# Altium footprint library Control_Board.PcbLib: 21 footprints (part 1 of 2)
Each footprint in its own frame and in the unit in brackets; x right, y up, seen from the top. Pads: shape width x height; smd on the part's side, far side on the other; paste and mask are expansions set on the pad; w line width, h text height; cw(c..) or ccw(c..) is an arc to the next point about the centre after c.
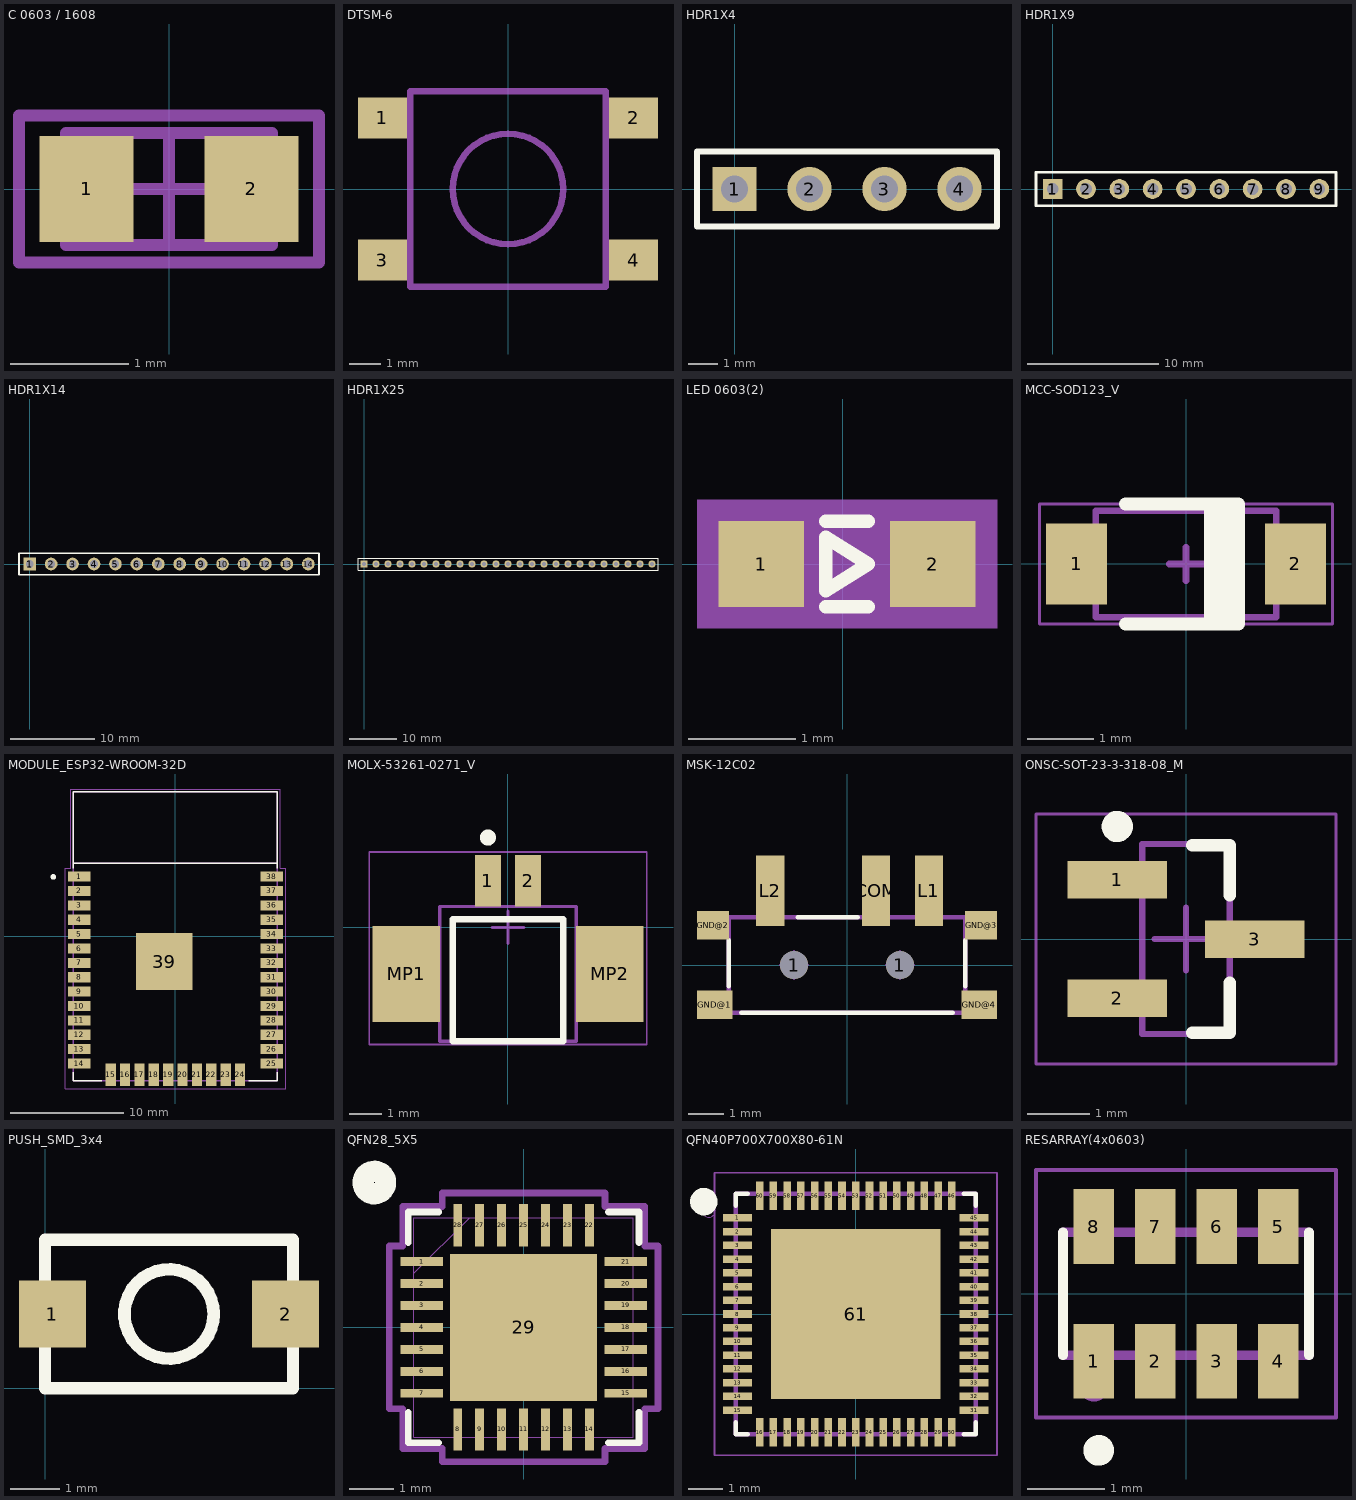
[diagram p0: the footprints below, top view; thin cyan lines are the x and y axes]

## C 0603 / 1608 [mm]
pads (2):
  rect 0.8x0.9 smd: 1(-0.7,0) 2(0.7,0)
Mechanical 13:
  lines w0.1: -0.875,-0.475 0.875,-0.475 0.875,0.475 -0.875,0.475 -0.875,-0.475
Mechanical 15:
  lines w0.1: -0.475,0 0.475,0 ; 0,-0.475 0,0.475 ; -1.275,-0.625 1.275,-0.625 1.275,0.625 -1.275,0.625 -1.275,-0.625
3D body "Capacitor 0603.step": height 0.3, standoff 0, extent -0.8,-0.4 0.8,0.4

## DTSM-6 [mil]
pads (4):
  rect 61.02x51.18 smd: 1(-156.5,88.58) 2(156.5,88.58) 3(-156.5,-88.58) 4(156.5,-88.58)
Mechanical 2:
  circle w8: c0,0 r68.9
  lines w8: -122.05,-39.37 -122.05,39.37 ; -108.27,-122.05 108.27,-122.05 ; -108.27,122.05 108.27,122.05 ; 122.05,-39.37 122.05,39.37
Mechanical 18:
  circle w8: c0,0 r68.9
  lines w8: -122.05,-122.05 -122.05,122.05 122.05,122.05 122.05,-122.05 -122.05,-122.05

## HDR1X4 [mm]
pads (4):
  rect 1.5x1.5 hole 0.9: 1(0,0)
  round 1.5 hole 0.9: 2(2.54,0) 3(5.08,0) 4(7.62,0)
Top Overlay:
  lines w0.2: -1.27,-1.27 -1.27,1.27 8.89,1.27 8.89,-1.27 -1.27,-1.27
3D body: height 8.54, standoff -3, extent -1.27,-1.245 8.89,1.245

## HDR1X9 [mm]
pads (9):
  rect 1.5x1.5 hole 0.9: 1(0,0)
  round 1.5 hole 0.9: 2(2.54,0) 3(5.08,0) 4(7.62,0) 5(10.16,0) 6(12.7,0) 7(15.24,0) 8(17.78,0) 9(20.32,0)
Top Overlay:
  lines w0.2: -1.27,-1.27 21.59,-1.27 21.59,1.27 -1.27,1.27 -1.27,-1.27
3D body: height 8.54, standoff -3, extent -1.27,-1.245 21.59,1.245

## HDR1X14 [mm]
pads (14):
  rect 1.5x1.5 hole 0.9: 1(0,0)
  round 1.5 hole 0.9: 2(2.54,0) 3(5.08,0) 4(7.62,0) 5(10.16,0) 6(12.7,0) 7(15.24,0) 8(17.78,0) 9(20.32,0) 10(22.86,0) 11(25.4,0) 12(27.94,0) 13(30.48,0) 14(33.02,0)
Top Overlay:
  lines w0.2: -1.27,-1.27 34.29,-1.27 34.29,1.27 0.635,1.27 -1.27,1.27 -1.27,-1.27
3D body "User Library-Header_Male_10Pin.STEP": height 8.54, standoff -3, extent -1.25,-1.24 24.15,1.25
3D body: height 8.54, standoff -3, extent 24.13,-1.245 34.29,1.245

## HDR1X25 [mm]
pads (25):
  rect 1.5x1.5 hole 0.9: 1(0,0)
  round 1.5 hole 0.9: 2(2.54,0) 3(5.08,0) 4(7.62,0) 5(10.16,0) 6(12.7,0) 7(15.24,0) 8(17.78,0) 9(20.32,0) 10(22.86,0) 11(25.4,0) 12(27.94,0) 13(30.48,0) 14(33.02,0) 15(35.56,0) 16(38.1,0) 17(40.64,0) 18(43.18,0) 19(45.72,0) 20(48.26,0) 21(50.8,0) 22(53.34,0) 23(55.88,0) 24(58.42,0) 25(60.96,0)
Top Overlay:
  lines w0.2: -1.27,-1.27 -1.27,1.27 0.635,1.27 62.23,1.27 62.23,-1.27 -1.27,-1.27

## LED 0603(2) [mm]
pads (2):
  rect 0.8x0.8 smd: 1(-0.762,0) 2(0.838,0)
Top Overlay:
  lines w0.127: -0.162,-0.4 0.238,-0.4 ; -0.162,0.4 0.238,0.4 ; -0.162,-0.25 -0.162,0.25 0.238,0 -0.162,-0.25
Mechanical 1:
  lines w0.127: -0.762,-0.4 -0.762,0.4 0.838,0.4 0.838,-0.4 -0.762,-0.4
Mechanical 4:
  region: 1.438,-0.6 -1.362,-0.6 -1.362,0.6 1.438,0.6

## MCC-SOD123_V [mil]
pads (2):
  rect 35.98x47.99 smd: 1(-64.5,0) 2(64.5,0)
Top Overlay:
  rectangle: 10.75,-35.44 30.75,35.42
  lines w7.87: -35.67,-35.43 30.75,-35.43 30.75,35.43 -35.67,35.43
Mechanical 13:
  lines w3.94: -53.15,-31.5 -53.15,31.5 53.15,31.5 53.15,-31.5 -53.15,-31.5
Mechanical 15:
  lines w1.97: -86.42,-35.43 -86.42,35.43 86.42,35.43 86.42,-35.43 -86.42,-35.43
  lines w3.94: -9.84,0 9.84,0 ; 0,-9.84 0,9.84
3D body: height 53.15, standoff 0, extent -53.15,-31.5 53.15,31.5

## MODULE_ESP32-WROOM-32D [mm]
pads (39):
  rect 2x0.9 smd: 1(-8.5,5.26) 2(-8.5,3.99) 3(-8.5,2.72) 4(-8.5,1.45) 5(-8.5,0.18) 6(-8.5,-1.09) 7(-8.5,-2.36) 8(-8.5,-3.63) 9(-8.5,-4.9) 10(-8.5,-6.17) 11(-8.5,-7.44) 12(-8.5,-8.71) 13(-8.5,-9.98) 14(-8.5,-11.25) 25(8.5,-11.25) 26(8.5,-9.98) 27(8.5,-8.71) 28(8.5,-7.44) 29(8.5,-6.17) 30(8.5,-4.9) 31(8.5,-3.63) 32(8.5,-2.36) 33(8.5,-1.09) 34(8.5,0.18) 35(8.5,1.45) 36(8.5,2.72) 37(8.5,3.99) 38(8.5,5.26)
  rect 0.9x2 smd: 15(-5.715,-12.25) 16(-4.445,-12.25) 17(-3.175,-12.25) 18(-1.905,-12.25) 19(-0.635,-12.25) 20(0.635,-12.25) 21(1.905,-12.25) 22(3.175,-12.25) 23(4.445,-12.25) 24(5.715,-12.25)
  rect 5x5 smd: 39(-1,-2.24)
Top Overlay:
  circle w0.3: c-10.777,5.238 r0.1
  lines w0.127: -9,-12 -9,-12.75 -6.5,-12.75 ; -9,6 -9,12.75 9,12.75 9,6 ; -8.96,6.45 8.96,6.45 ; 6.5,-12.75 9,-12.75 9,-12
Top Paste:
  region: -2.586,-0.659 0.581,-0.659 0.581,-3.828 -2.586,-3.828
Mechanical 1:
  circle w0.3: c-8.277,5.238 r0.1
  lines w0.127: -8.96,6.45 8.96,6.45 ; -9,-12.75 9,-12.75 9,12.75 -9,12.75 -9,-12.75
  text "ANTENNA" at -5.725,8.401 h1
Mechanical 4:
  lines w0.05: -9.75,-13.5 9.75,-13.5 9.75,6 9.25,6 9.25,13 -9.25,13 -9.25,6 -9.75,6 -9.75,-13.5

## MOLX-53261-0271_V [mm]
pads (4):
  rect 0.8x1.6 smd: 1(-0.625,1.45) 2(0.625,1.45)
  rect 2.1x3 smd: MP1(-3.175,-1.45) MP2(3.175,-1.45)
Top Overlay:
  circle w0.25: c-0.625,2.8 r0.125
  lines w0.2: -1.725,-3.55 1.725,-3.55 1.725,0.25 -1.725,0.25 -1.725,-3.55
Mechanical 13:
  lines w0.1: -2.125,-3.55 2.125,-3.55 2.125,0.65 -2.125,0.65 -2.125,-3.55
Mechanical 15:
  lines w0.05: -4.325,-3.65 4.325,-3.65 4.325,2.35 -4.325,2.35 -4.325,-3.65
  lines w0.1: -0.5,0 0.5,0 ; 0,-0.5 0,0.5
3D body: height 3.41, standoff 0.01, extent -3.825,-3.55 3.825,1.65

## MSK-12C02 [mil]
pads (9):
  round 31.5 hole 31.5: 1(-59.06,0) 1(59.06,0)
  rect 31.5x78.74 smd: COM(32.4,82.68) L1(91.46,82.68) L2(-85.71,82.68)
  rect 39.37x31.5 smd: GND@1(-147.64,-44.29) GND@4(147.64,-44.29)
  rect 35.43x31.5 smd: GND@2(-149.61,44.29) GND@3(149.61,44.29)
Top Overlay:
  lines w5: -131.89,-23.62 -131.89,27.56 ; -118.11,-53.15 1.97,-53.15 53.15,-53.15 118.11,-53.15 ; -55.12,53.15 11.81,53.15 ; 131.89,-23.62 131.89,27.56
Mechanical 8:
  lines w1.97: -133.86,-53.15 -157.48,-53.15 -157.48,-35.43 -133.86,-35.43 ; -131.89,35.43 -157.48,35.43 -157.48,53.15 -131.89,53.15 ; -93.58,53.15 -93.58,92.52 -77.83,92.52 -77.83,53.15 ; -74.8,0 -59.06,0 ; -59.06,-15.75 -59.06,0 ; -59.06,15.75 -59.06,0 ; -43.31,0 -59.06,0 ; 24.53,53.15 24.53,92.52 40.28,92.52 40.28,53.15 ; 43.31,0 59.06,0 ; 59.06,-15.75 59.06,0 ; 59.06,15.75 59.06,0 ; 74.8,0 59.06,0 ; 83.58,53.15 83.58,92.52 99.33,92.52 99.33,53.15 ; 133.86,-53.15 157.48,-53.15 157.48,-35.43 133.86,-35.43 ; 133.86,35.43 157.48,35.43 157.48,53.15 133.86,53.15
  lines w5: -131.89,-53.15 -131.89,35.43 -131.89,53.15 -93.58,53.15 -77.83,53.15 24.53,53.15 40.28,53.15 83.58,53.15 99.33,53.15 131.89,53.15 131.89,-53.15 -5.91,-53.15 -57.09,-53.15 -131.89,-53.15
3D body: height 45.67, standoff -19.68, extent -151.57,-110.23 151.58,86.62

## ONSC-SOT-23-3-318-08_M [mm]
pads (3):
  rect 1.6x0.6 smd: 1(-1.1,0.95) 2(-1.1,-0.95) 3(1.1,0)
Top Overlay:
  circle w0.25: c-1.1,1.8 r0.125
  lines w0.2: 0.1,-1.5 0.7,-1.5 0.7,-0.7 ; 0.1,1.5 0.7,1.5 0.7,0.7
Mechanical 13:
  lines w0.1: -0.7,-1.52 -0.7,1.52 0.7,1.52 0.7,-1.52 -0.7,-1.52
Mechanical 15:
  lines w0.05: -2.4,-2 -2.4,2 2.4,2 2.4,-2 -2.4,-2
  lines w0.1: -0.5,0 0.5,0 ; 0,-0.5 0,0.5
3D body: height 1.11, standoff 0.01, extent -0.7,-1.52 0.7,1.52

## PUSH_SMD_3x4 [mm]
pads (2):
  rect 1.35x1.35 smd: 1(0.15,1.5) 2(4.85,1.5)
Top Overlay:
  circle w0.254: c2.5,1.5 r0.9
  lines w0.25: 0,0 5,0 5,3 0,3 0,0

## QFN28_5X5 [mil]
pads (29):
  rect 38x8 smd paste+0 mask+0: 1(-91.5,59.06) 2(-91.5,39.37) 3(-91.5,19.68) 4(-91.5,0) 5(-91.5,-19.68) 6(-91.5,-39.37) 7(-91.5,-59.06) 15(91.5,-59.06) 16(91.5,-39.37) 17(91.5,-19.68) 18(91.5,0) 19(91.5,19.68) 20(91.5,39.37) 21(91.5,59.06)
  rect 8x38 smd paste+0 mask+0: 8(-59.06,-91.5) 9(-39.37,-91.5) 10(-19.68,-91.5) 11(0,-91.5) 12(19.68,-91.5) 13(39.37,-91.5) 14(59.06,-91.5) 22(59.06,91.5) 23(39.37,91.5) 24(19.68,91.5) 25(0,91.5) 26(-19.68,91.5) 27(-39.37,91.5) 28(-59.06,91.5)
  rect 132x132 smd paste-65.5 mask+0: 29(0,0)
Top Overlay:
  circle w10: c-133.86,129.92 r14.63
  circle w10: c-133.86,129.92 r5.57
  lines w6: -103.5,-76.16 -103.5,-103.5 -76.16,-103.5 ; -103.5,76.16 -103.5,103.5 -76.16,103.5 ; 76.16,-103.5 103.5,-103.5 103.5,-76.16 ; 76.16,103.5 103.5,103.5 103.5,76.16
Top Paste:
  region: 62.06,-3.94 3.94,-3.94 3.94,-62.06 62.06,-62.06
  region: 62.06,62.06 3.94,62.06 3.94,3.94 62.06,3.94
  region: -3.94,-3.94 -62.06,-3.94 -62.06,-62.06 -3.94,-62.06
  region: -3.94,62.06 -62.06,62.06 -62.06,3.94 -3.94,3.94
Mechanical 13:
  lines w1: -98.5,48.5 -48.5,98.5 ; -98.5,-98.5 -98.5,98.5 98.5,98.5 98.5,-98.5 -98.5,-98.5 ; -98.5,-65.06 -98.5,-53.06 -98.5,-65.06 ; -98.5,-45.37 -98.5,-33.37 -98.5,-45.37 ; -98.5,-25.68 -98.5,-13.69 -98.5,-25.68 ; -98.5,-6 -98.5,6 -98.5,-6 ; -98.5,13.69 -98.5,25.68 -98.5,13.69 ; -98.5,33.37 -98.5,45.37 -98.5,33.37 ; -98.5,53.06 -98.5,65.06 -98.5,53.06 ; -65.06,-98.5 -53.06,-98.5 -65.06,-98.5 ; -65.06,98.5 -53.06,98.5 -65.06,98.5 ; -45.37,-98.5 -33.37,-98.5 -45.37,-98.5 ; -45.37,98.5 -33.37,98.5 -45.37,98.5 ; -25.68,-98.5 -13.69,-98.5 -25.68,-98.5 ; -25.68,98.5 -13.69,98.5 -25.68,98.5 ; -6,-98.5 6,-98.5 -6,-98.5 ; -6,98.5 6,98.5 -6,98.5 ; 13.69,-98.5 25.68,-98.5 13.69,-98.5 ; 13.69,98.5 25.68,98.5 13.69,98.5 ; 33.37,-98.5 45.37,-98.5 33.37,-98.5 ; 33.37,98.5 45.37,98.5 33.37,98.5 ; 53.06,-98.5 65.06,-98.5 53.06,-98.5 ; 53.06,98.5 65.06,98.5 53.06,98.5 ; 98.5,-65.06 98.5,-53.06 98.5,-65.06 ; 98.5,-45.37 98.5,-33.37 98.5,-45.37 ; 98.5,-25.68 98.5,-13.69 98.5,-25.68 ; 98.5,-6 98.5,6 98.5,-6 ; 98.5,13.69 98.5,25.68 98.5,13.69 ; 98.5,33.37 98.5,45.37 98.5,33.37 ; 98.5,53.06 98.5,65.06 98.5,53.06
  text "*" at -85,43.9 h39.37
Mechanical 15:
  lines w6: -120.5,-73.06 -120.5,73.06 -108.5,73.06 -108.5,108.5 -73.06,108.5 -73.06,120.5 73.06,120.5 73.06,108.5 108.5,108.5 108.5,73.06 120.5,73.06 120.5,-73.06 108.5,-73.06 108.5,-108.5 73.06,-108.5 73.06,-120.5 -73.06,-120.5 -73.06,-108.5 -108.5,-108.5 -108.5,-73.06 -120.5,-73.06
3D body: height 10, standoff 0, extent 0,0 10,10

## QFN40P700X700X80-61N [mm]
pads (61):
  rect 0.84x0.22 smd: 1(-3.445,2.8) 2(-3.445,2.4) 3(-3.445,2) 4(-3.445,1.6) 5(-3.445,1.2) 6(-3.445,0.8) 7(-3.445,0.4) 8(-3.445,0) 9(-3.445,-0.4) 10(-3.445,-0.8) 11(-3.445,-1.2) 12(-3.445,-1.6) 13(-3.445,-2) 14(-3.445,-2.4) 15(-3.445,-2.8) 31(3.445,-2.8) 32(3.445,-2.4) 33(3.445,-2) 34(3.445,-1.6) 35(3.445,-1.2) 36(3.445,-0.8) 37(3.445,-0.4) 38(3.445,0) 39(3.445,0.4) 40(3.445,0.8) 41(3.445,1.2) 42(3.445,1.6) 43(3.445,2) 44(3.445,2.4) 45(3.445,2.8)
  rect 0.22x0.84 smd: 16(-2.8,-3.445) 17(-2.4,-3.445) 18(-2,-3.445) 19(-1.6,-3.445) 20(-1.2,-3.445) 21(-0.8,-3.445) 22(-0.4,-3.445) 23(0,-3.445) 24(0.4,-3.445) 25(0.8,-3.445) 26(1.2,-3.445) 27(1.6,-3.445) 28(2,-3.445) 29(2.4,-3.445) 30(2.8,-3.445) 46(2.8,3.445) 47(2.4,3.445) 48(2,3.445) 49(1.6,3.445) 50(1.2,3.445) 51(0.8,3.445) 52(0.4,3.445) 53(0,3.445) 54(-0.4,3.445) 55(-0.8,3.445) 56(-1.2,3.445) 57(-1.6,3.445) 58(-2,3.445) 59(-2.4,3.445) 60(-2.8,3.445)
  rect 4.95x4.95 smd: 61(0,0)
Top Overlay:
  circle w0.4: c-4.425,3.275 r0.2
  lines w0.127: -3.5,-3.15 -3.5,-3.5 -3.15,-3.5 ; -3.5,3.15 -3.5,3.5 -3.15,3.5 ; 3.15,-3.5 3.5,-3.5 3.5,-3.15 ; 3.15,3.5 3.5,3.5 3.5,3.15
Top Paste:
  region: 0.32,2.16 2.16,2.16 2.16,0.32 0.32,0.32
  region: -2.16,2.16 -0.32,2.16 -0.32,0.32 -2.16,0.32
  region: -2.16,-0.32 -0.32,-0.32 -0.32,-2.16 -2.16,-2.16
  region: 0.32,-0.32 2.16,-0.32 2.16,-2.16 0.32,-2.16
Mechanical 4:
  circle w0: c-4.285,3.02 r0.2
  circle w0: c-4.285,3.02 r0.2
  lines w0.127: -3.5,-3.5 3.5,-3.5 ; -3.5,-3.5 -3.5,3.5 ; -3.5,-3.5 3.5,-3.5 ; -3.5,-3.5 -3.5,3.5 ; -3.5,3.5 3.5,3.5 ; -3.5,3.5 3.5,3.5 ; 3.5,-3.5 3.5,3.5 ; 3.5,-3.5 3.5,3.5
Mechanical 16:
  lines w0.05: -4.115,-4.115 4.115,-4.115 4.115,4.115 -4.115,4.115 -4.115,-4.115

## RESARRAY(4x0603) [mm]
pads (8):
  rect 0.53x0.97 smd: 1(-1.2,-0.875) 2(-0.4,-0.875) 3(0.4,-0.875) 4(1.2,-0.875) 5(1.2,0.875) 6(0.4,0.875) 7(-0.4,0.875) 8(-1.2,0.875)
Top Overlay:
  circle w0.2: c-1.135,-2.035 r0.1
  lines w0.127: -1.6,-0.8 -1.6,0.8 ; 1.6,-0.8 1.6,0.8
Mechanical 4:
  circle w0.2: c-1.2,-1.2 r0.1
  circle w0.2: c-1.2,-1.2 r0.1
  lines w0.127: -1.6,-0.8 -1.6,0.8 ; -1.6,-0.8 1.6,-0.8 ; -1.6,-0.8 -1.6,0.8 ; -1.6,-0.8 1.6,-0.8 ; -1.6,0.8 1.6,0.8 ; -1.6,0.8 1.6,0.8 ; 1.6,-0.8 1.6,0.8 ; 1.6,-0.8 1.6,0.8
Mechanical 16:
  lines w0.05: -1.95,-1.61 -1.95,1.61 1.95,1.61 1.95,-1.61 -1.95,-1.61